# Altium footprint library PCB2.PcbLib: 48 footprints (part 2 of 3)
Each footprint in its own frame and in the unit in brackets; x right, y up, seen from the top. Pads: shape width x height; smd on the part's side, far side on the other; paste and mask are expansions set on the pad; w line width, h text height; cw(c..) or ccw(c..) is an arc to the next point about the centre after c.
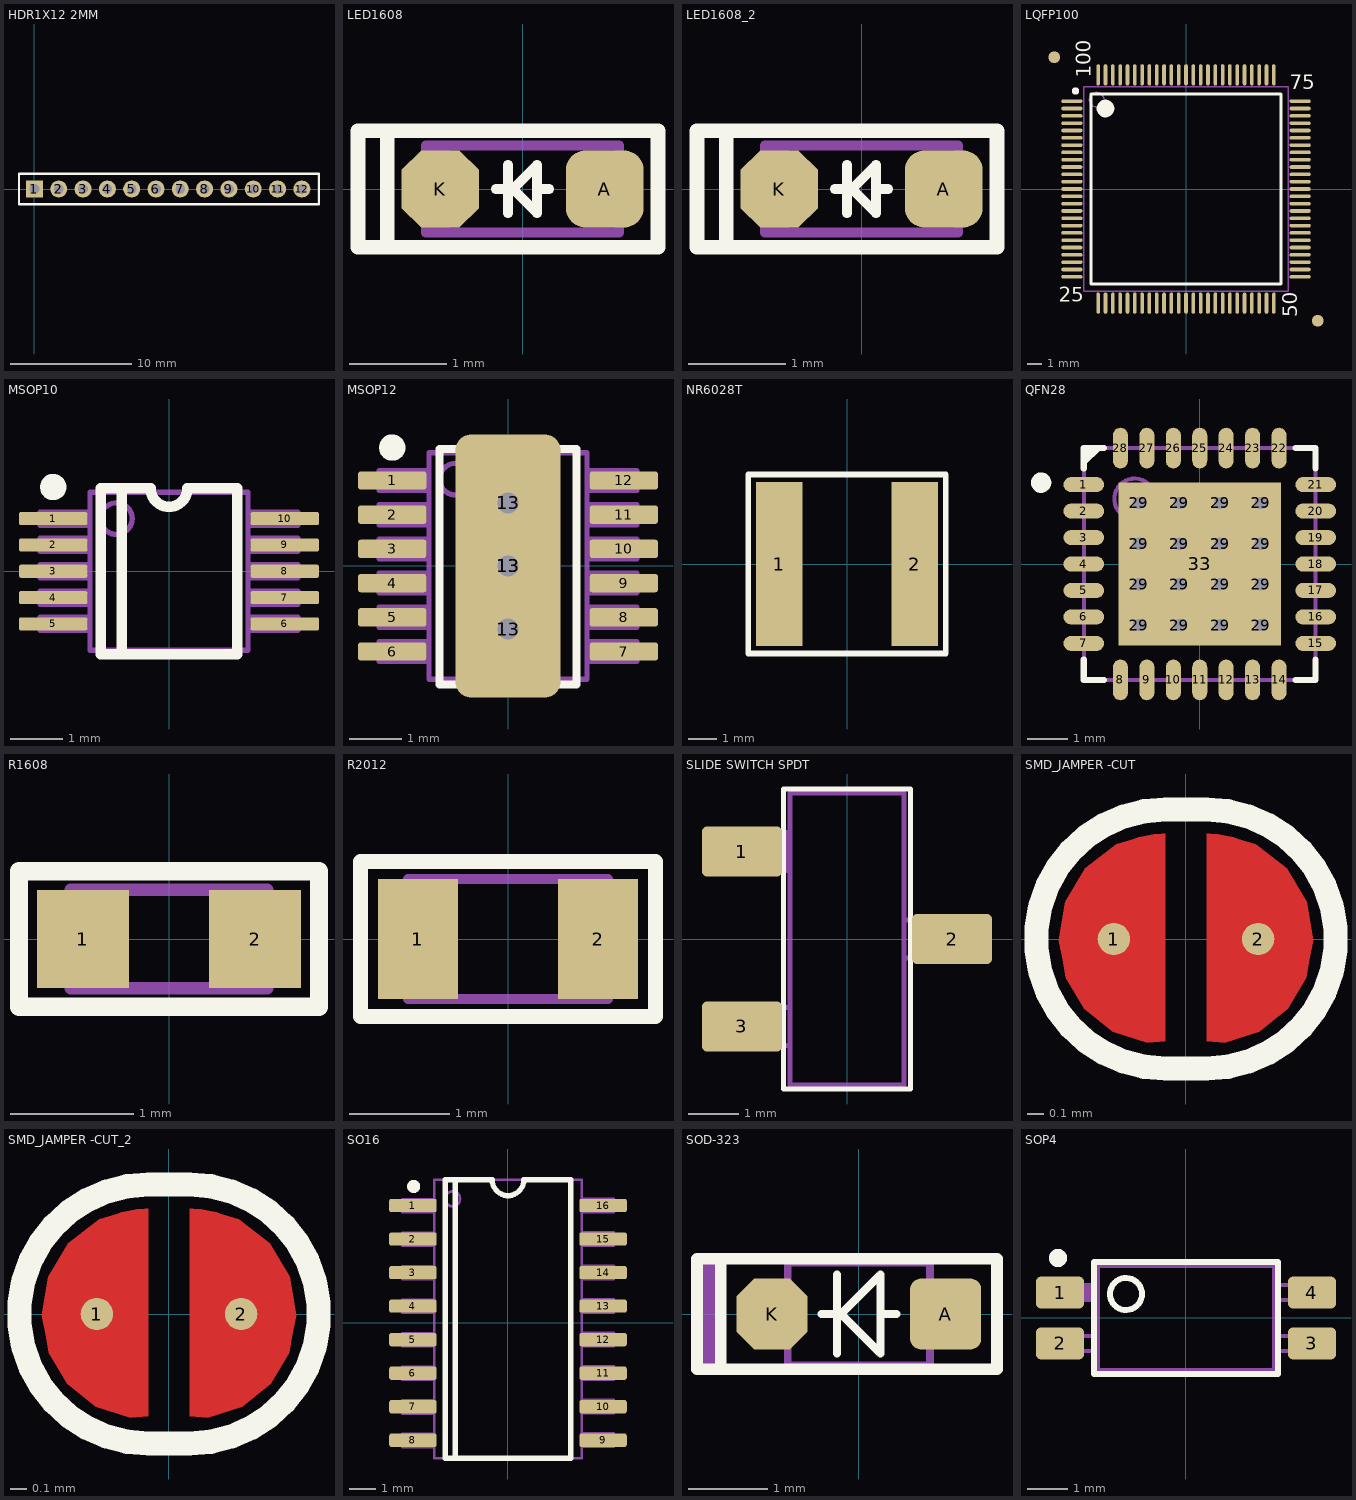
[diagram p1: the footprints below, top view; thin cyan lines are the x and y axes]

## HDR1X12 2MM [mm]
pads (12):
  rect 1.4x1.4 hole 0.8: 1(0,0)
  round 1.4 hole 0.8: 2(2,0) 3(4,0) 4(6,0) 5(8,0) 6(10,0) 7(12,0) 8(14,0) 9(16,0) 10(18,0) 11(20,0) 12(22,0)
Top Overlay:
  lines w0.2: 23.368,-1.27 -1.27,-1.27 -1.27,1.27 23.368,1.27 ; 23.41,-1.27 23.41,1.27
Mechanical 5:
  lines w0.1: -1.27,-1.27 -1.27,1.27 23.368,1.27 23.368,-1.27 -1.27,-1.27

## LED1608 [mm]
pads (2):
  rrect50% 0.8x0.8 smd: A(0.85,0)
  oct 0.8x0.8 smd: K(-0.85,0)
Top Overlay:
  lines w0.1: -0.275,0 -0.125,0 ; -0.15,-0.25 -0.15,0.25 ; 0.15,0 0.275,0 ; -0.1,0 0.15,-0.25 0.15,0.25 -0.1,0
  lines w0.15: -1.4,-0.6 -1.7,-0.6 -1.7,0.6 -1.4,0.6 ; -1.4,-0.6 -1.4,0.6 ; -1.4,-0.6 1.4,-0.6 1.4,0.6 -1.4,0.6
Mechanical 5:
  rectangle: -1,-0.45 -0.75,0.45
  lines w0.1: -1,-0.45 -1,0.45 1,0.45 1,-0.45 -1,-0.45
  text ".designator" at -0.65,-0.15 h0.4
3D body: height 0.3, standoff 0, extent -0.9,-0.45 -0.65,0.45
3D body: height 0.3, standoff 0, extent 0.65,-0.45 0.899,0.45
3D body: height 0.8, standoff 0, extent -0.65,-0.45 0.65,0.45

## LED1608_2 [mm]
pads (2):
  rrect50% 0.8x0.8 smd: A(0.85,0)
  oct 0.8x0.8 smd: K(-0.85,0)
Top Overlay:
  lines w0.1: -0.275,0 -0.125,0 ; -0.15,-0.25 -0.15,0.25 ; 0.15,0 0.275,0 ; -0.1,0 0.15,-0.25 0.15,0.25 -0.1,0
  lines w0.15: -1.4,-0.6 -1.7,-0.6 -1.7,0.6 -1.4,0.6 ; -1.4,-0.6 -1.4,0.6 ; -1.4,-0.6 1.4,-0.6 1.4,0.6 -1.4,0.6
Mechanical 5:
  rectangle: -1,-0.45 -0.75,0.45
  lines w0.1: -1,-0.45 -1,0.45 1,0.45 1,-0.45 -1,-0.45
  text ".designator" at -0.65,-0.15 h0.4
3D body: height 0.3, standoff 0, extent -0.9,-0.45 -0.65,0.45
3D body: height 0.3, standoff 0, extent 0.65,-0.45 0.899,0.45
3D body: height 0.8, standoff 0, extent -0.65,-0.45 0.65,0.45

## LQFP100 [mm]
pads (104):
  oval 1.45x0.25 smd mask+0.07: 1(-7.8,6) 2(-7.8,5.5) 3(-7.8,5) 4(-7.8,4.5) 5(-7.8,4) 6(-7.8,3.5) 7(-7.8,3) 8(-7.8,2.5) 9(-7.8,2) 10(-7.8,1.5) 11(-7.8,1) 12(-7.8,0.5) 13(-7.8,0) 14(-7.8,-0.5) 15(-7.8,-1) 16(-7.8,-1.5) 17(-7.8,-2) 18(-7.8,-2.5) 19(-7.8,-3) 20(-7.8,-3.5) 21(-7.8,-4) 22(-7.8,-4.5) 23(-7.8,-5) 24(-7.8,-5.5) 25(-7.8,-6) 51(7.8,-6) 52(7.8,-5.5) 53(7.8,-5) 54(7.8,-4.5) 55(7.8,-4) 56(7.8,-3.5) 57(7.8,-3) 58(7.8,-2.5) 59(7.8,-2) 60(7.8,-1.5) 61(7.8,-1) 62(7.8,-0.5) 63(7.8,0) 64(7.8,0.5) 65(7.8,1) 66(7.8,1.5) 67(7.8,2) 68(7.8,2.5) 69(7.8,3) 70(7.8,3.5) 71(7.8,4) 72(7.8,4.5) 73(7.8,5) 74(7.8,5.5) 75(7.8,6)
  oval 0.25x1.45 smd mask+0.07: 26(-6,-7.8) 27(-5.5,-7.8) 28(-5,-7.8) 29(-4.5,-7.8) 30(-4,-7.8) 31(-3.5,-7.8) 32(-3,-7.8) 33(-2.5,-7.8) 34(-2,-7.8) 35(-1.5,-7.8) 36(-1,-7.8) 37(-0.5,-7.8) 38(0,-7.8) 39(0.5,-7.8) 40(1,-7.8) 41(1.5,-7.8) 42(2,-7.8) 43(2.5,-7.8) 44(3,-7.8) 45(3.5,-7.8) 46(4,-7.8) 47(4.5,-7.8) 48(5,-7.8) 49(5.5,-7.8) 50(6,-7.8) 76(6,7.8) 77(5.5,7.8) 78(5,7.8) 79(4.5,7.8) 80(4,7.8) 81(3.5,7.8) 82(3,7.8) 83(2.5,7.8) 84(2,7.8) 85(1.5,7.8) 86(1,7.8) 87(0.5,7.8) 88(0,7.8) 89(-0.5,7.8) 90(-1,7.8) 91(-1.5,7.8) 92(-2,7.8) 93(-2.5,7.8) 94(-3,7.8) 95(-3.5,7.8) 96(-4,7.8) 97(-4.5,7.8) 98(-5,7.8) 99(-5.5,7.8) 100(-6,7.8)
  round 0.8 smd paste-5: FID(-9,9) FID(9,-9)
  round 2.5 on Top Solder: ""(-9,9) ""(9,-9)
Top Overlay:
  circle w0.25: c-7.55,6.7 r0.125
  circle w0.6: c-5.5,5.5 r0.3
  lines w0.2: -6.5,-6.5 -6.5,6.5 6.5,6.5 6.5,-6.5 -6.5,-6.5
  text "25" at -8.7,-7.7 h1
  text "100" at -6.5,7.6 h1
  text "50" at 7.6,-8.75 h1
  text "75" at 7.1,6.8 h1
Mechanical 5:
  circle w0.1: c-6.1,6.1 r0.5
  lines w0.1: -7,-7 7,-7 7,7 -7,7 -7,-7
Mechanical 13:
  circle w0.1: c-6.1,6.1 r0.5
  lines w0.1: -7,-7 -7,7 7,7 7,-7 -7,-7
3D body: height 1.2, standoff 0, extent -7,-7 7,7

## MSOP10 [mm]
pads (10):
  rrect30% 1.3x0.25 smd: 1(-2.2,1) 2(-2.2,0.5) 3(-2.2,0) 4(-2.2,-0.5) 5(-2.2,-1) 6(2.2,-1) 7(2.2,-0.5) 8(2.2,0) 9(2.2,0.5) 10(2.2,1)
Top Overlay:
  circle w0.25: c-2.2,1.6 r0.125
  lines w0.2: -0.9,-1.575 -0.9,1.575 ; 0.351,1.575 cw(c0,1.575) -0.351,1.575 -1.3,1.575 -1.3,-1.575 1.3,-1.575 1.3,1.575 0.375,1.575
Mechanical 5:
  circle w0.1: c-1,1 r0.3
  lines w0.1: -1.5,-1.125 -2.45,-1.125 -2.45,-0.875 -1.5,-0.875 ; -1.5,-0.625 -2.45,-0.625 -2.45,-0.375 -1.5,-0.375 ; -1.5,-0.125 -2.45,-0.125 -2.45,0.125 -1.5,0.125 ; -1.5,0.375 -2.45,0.375 -2.45,0.625 -1.5,0.625 ; -1.5,0.875 -2.45,0.875 -2.45,1.125 -1.5,1.125 ; 1.5,-1.125 2.45,-1.125 2.45,-0.875 1.5,-0.875 ; 1.5,-0.625 2.45,-0.625 2.45,-0.375 1.5,-0.375 ; 1.5,-0.125 2.45,-0.125 2.45,0.125 1.5,0.125 ; 1.5,0.375 2.45,0.375 2.45,0.625 1.5,0.625 ; 1.5,0.875 2.45,0.875 2.45,1.125 1.5,1.125 ; -1.5,-1.5 1.5,-1.5 1.5,1.5 -1.5,1.5 -1.5,-1.5
  text ".designator" at -1.33,-0.3 h0.6
Mechanical 13:
  lines w0.1: -1.5,-1.5 1.5,-1.5 1.5,1.5 -1.5,1.5 -1.5,-1.5
3D body "User Library-MSOP10-1.STEP": height 1.09, standoff 0, extent -2.575,-1.6 2.575,1.6

## MSOP12 [mm]
pads (16):
  rrect30% 1.3x0.35 smd: 1(-2.2,1.625) 2(-2.2,0.975) 3(-2.2,0.325) 4(-2.2,-0.325) 5(-2.2,-0.975) 6(-2.2,-1.625) 7(2.2,-1.625) 8(2.2,-0.975) 9(2.2,-0.325) 10(2.2,0.325) 11(2.2,0.975) 12(2.2,1.625)
  round 0.8 hole 0.4: 13(0,-1.2) 13(0,0) 13(0,1.2)
  rrect30% 2x5 smd: 13(0,0)
Top Overlay:
  circle w0.25: c-2.2,2.25 r0.125
  lines w0.15: -0.9,-2.25 -0.9,2.225 ; 0.351,2.225 cw(c0,2.225) -0.351,2.225 -1.3,2.225 -1.3,-2.25 1.3,-2.25 1.3,2.225 0.375,2.225
Mechanical 5:
  circle w0.1: c-1,1.65 r0.3
  rectangle: -2.45,1.435 -1.5,1.815
  lines w0.1: -1.5,-1.815 -2.45,-1.815 -2.45,-1.435 -1.5,-1.435 ; -1.5,-1.165 -2.45,-1.165 -2.45,-0.785 -1.5,-0.785 ; -1.5,-0.515 -2.45,-0.515 -2.45,-0.135 -1.5,-0.135 ; -1.5,0.135 -2.45,0.135 -2.45,0.515 -1.5,0.515 ; -1.5,0.785 -2.45,0.785 -2.45,1.165 -1.5,1.165 ; -1.5,1.435 -2.45,1.435 -2.45,1.815 -1.5,1.815 ; 1.5,-1.815 2.45,-1.815 2.45,-1.435 1.5,-1.435 ; 1.5,-1.165 2.45,-1.165 2.45,-0.785 1.5,-0.785 ; 1.5,-0.515 2.45,-0.515 2.45,-0.135 1.5,-0.135 ; 1.5,0.135 2.45,0.135 2.45,0.515 1.5,0.515 ; 1.5,0.785 2.45,0.785 2.45,1.165 1.5,1.165 ; 1.5,1.435 2.45,1.435 2.45,1.815 1.5,1.815 ; -1.5,-2.15 -1.5,2.15 1.5,2.15 1.5,-2.15 -1.5,-2.15
  text ".designator" at 0.3,-1.6 h0.7
Mechanical 13:
  lines w0.1: -1.5,-0.85 -1.5,2.15 1.5,2.15 1.5,-0.85
3D body "User Library-MSOP12-EP.step": height 0.98, standoff 0, extent -2.45,-2.02 2.45,2.019

## NR6028T [mm]
pads (2):
  rect 1.6x5.7 smd: 1(-2.35,0) 2(2.35,0)
Top Overlay:
  lines w0.2: -3.425,-3.1 3.425,-3.1 3.425,3.1 -3.425,3.1 -3.425,-3.1
Mechanical 5:
  lines w0.1: -3.425,-3.1 -3.425,3.1 3.425,3.1 3.425,-3.1 -3.425,-3.1
  text ".designator" at -3.048,-0.762 h1.4

## QFN28 [mm] "QFN, 32-Leads, Body 5.1x5.1mm (max), Pitch 0.50mm, IPC Medium Density"
height 1
pads (45):
  oval 1x0.37 smd mask+0.07: 1(-2.85,1.95) 2(-2.85,1.3) 3(-2.85,0.65) 4(-2.85,0) 5(-2.85,-0.65) 6(-2.85,-1.3) 7(-2.85,-1.95) 15(2.85,-1.95) 16(2.85,-1.3) 17(2.85,-0.65) 18(2.85,0) 19(2.85,0.65) 20(2.85,1.3) 21(2.85,1.95)
  oval 0.37x1 smd mask+0.07: 8(-1.95,-2.85) 9(-1.3,-2.85) 10(-0.65,-2.85) 11(0,-2.85) 12(0.65,-2.85) 13(1.3,-2.85) 14(1.95,-2.85) 22(1.95,2.85) 23(1.3,2.85) 24(0.65,2.85) 25(0,2.85) 26(-0.65,2.85) 27(-1.3,2.85) 28(-1.95,2.85)
  round 0.6 hole 0.3: 29(-1.5,-1.5) 29(-1.5,-0.5) 29(-1.5,0.5) 29(-1.5,1.5) 29(-0.5,-1.5) 29(-0.5,-0.5) 29(-0.5,0.5) 29(-0.5,1.5) 29(0.5,-1.5) 29(0.5,-0.5) 29(0.5,1.5) 29(1.5,-1.5) 29(1.5,-0.5) 29(1.5,0.5) 29(1.5,1.5)
  round 0.6 hole 0.3 paste-2 mask+0: 29(0.5,0.5)
  rect 4x4 smd paste-2 mask+0: 33(0,0)
Top Overlay:
  circle w0.25: c-3.9,2 r0.125
  lines w0.15: -2.85,-2.35 -2.85,-2.85 -2.35,-2.85 ; -2.85,2.35 -2.85,2.85 -2.35,2.85 ; -2.85,2.5 -2.5,2.85 ; -2.85,2.625 -2.625,2.85 ; 2.35,-2.85 2.85,-2.85 2.85,-2.35 ; 2.35,2.85 2.85,2.85 2.85,2.35
Top Paste:
  rectangle: -1.55,0.15 -0.15,1.55
  region: 1.55,1.55 0.15,1.55 0.15,0.15 1.55,0.15
  region: 1.55,-0.15 0.15,-0.15 0.15,-1.55 1.55,-1.55
  rectangle: -1.55,-1.55 -0.15,-0.15
Mechanical 5:
  circle w0.1: c-1.6,1.6 r0.5
  lines w0.1: -2.85,-2.85 2.85,-2.85 2.85,2.85 -2.85,2.85 -2.85,-2.85
  text ".designator" at -2.2,-0.5 h1
Mechanical 13:
  circle w0.1: c-1.6,1.6 r0.5
  lines w0.1: -2.85,-2.85 2.85,-2.85 2.85,2.85 -2.85,2.85 -2.85,-2.85
3D body "User Library-QFN-28.STEP": height 1.02, standoff -0.08, extent -3,-3 3,3

## R1608 [mm]
pads (2):
  rect 0.75x0.8 smd mask+0.05: 1(-0.7,0) 2(0.7,0)
Top Overlay:
  lines w0.15: -1.22,-0.55 -1.22,0.55 1.22,0.55 1.22,-0.55 -1.22,-0.55
Mechanical 5:
  lines w0.1: -1.22,-0.55 1.22,-0.55 1.22,0.55 -1.22,0.55 -1.22,-0.55
  text ".designator" at -1.05,-0.25 h0.5
Mechanical 13:
  lines w0.1: -0.4,-0.4 -0.4,0.4 ; 0.4,-0.4 0.4,0.4 ; -0.8,-0.4 0.8,-0.4 0.8,0.4 -0.8,0.4 -0.8,-0.4
3D body: height 0.45, standoff 0, extent 0.401,-0.399 0.799,0.399
3D body: height 0.45, standoff 0, extent -0.399,-0.399 0.399,0.399
3D body: height 0.45, standoff 0, extent -0.799,-0.399 -0.401,0.399

## R2012 [mm]
pads (2):
  rect 0.8x1.2 smd mask+0.05: 1(-0.9,0) 2(0.9,0)
Top Overlay:
  lines w0.15: -1.475,-0.775 1.475,-0.775 1.475,0.775 -1.475,0.775 -1.475,-0.775
Mechanical 5:
  lines w0.1: -1.475,-0.775 -1.475,0.775 1.475,0.775 1.475,-0.775 -1.475,-0.775
  text ".designator" at -1.3,-0.3 h0.6
Mechanical 13:
  lines w0.1: -0.6,-0.6 -0.6,0.6 ; 0.6,-0.6 0.6,0.6 ; -1,-0.6 -1,0.6 1,0.6 1,-0.6 -1,-0.6
3D body: height 0.55, standoff 0, extent -0.599,-0.599 0.599,0.599
3D body: height 0.55, standoff 0, extent -0.999,-0.599 -0.601,0.599
3D body: height 0.55, standoff 0, extent 0.601,-0.599 0.999,0.599

## SLIDE SWITCH SPDT [mm]
pads (3):
  rrect20% 1.6x1 smd: 1(-2.1,1.75) 2(2.1,0) 3(-2.1,-1.75)
Top Overlay:
  lines w0.1: -1.27,-3 -1.27,3 1.27,3 1.27,-3 -1.27,-3
Mechanical 5:
  rectangle: -2.354,1.397 -1.143,2.131
  lines w0.1: -1.143,-2.131 -2.354,-2.131 -2.354,-1.369 -1.143,-1.369 ; -1.143,1.369 -2.354,1.369 -2.354,2.131 -1.143,2.131 ; 1.143,-0.381 2.286,-0.381 2.286,0.381 1.143,0.381 ; -1.143,-2.921 1.143,-2.921 1.143,2.921 -1.143,2.921 -1.143,-2.921
  text ".designator" at 0.381,-1.778 h0.8

## SMD_JAMPER -CUT [mm]
pads (2):
  round 0.2 smd mask+0.102: 1(-0.446,0)
  round 0.2 smd: 2(0.446,0)
Top Layer:
  region: 0.127,0.65 0.151,0.65 0.199,0.646 0.247,0.639 0.294,0.628 0.317,0.621 0.432,0.586 0.623,0.437 0.746,0.23 0.786,-0.009 0.762,-0.127 0.744,-0.238 0.63,-0.432 0.454,-0.573 0.239,-0.64 0.127,-0.633
  region: -0.127,0.65 -0.151,0.65 -0.199,0.646 -0.247,0.639 -0.294,0.628 -0.317,0.621 -0.432,0.586 -0.623,0.437 -0.746,0.229 -0.786,-0.009 -0.762,-0.127 -0.744,-0.238 -0.63,-0.432 -0.454,-0.573 -0.239,-0.64 -0.127,-0.633
Top Overlay:
  lines w0.15: -0.127,-0.8 cw(c-0.127,0) -0.127,0.8 0.127,0.8 cw(c0.127,0) 0.127,-0.8 -0.127,-0.8
Mechanical 5:
  lines w0.1: -0.127,-0.8 cw(c-0.127,0) -0.127,0.8 0.127,0.8 cw(c0.127,0) 0.127,-0.8 -0.127,-0.8

## SMD_JAMPER -CUT_2 [mm]
pads (2):
  round 0.2 smd mask+0.102: 1(-0.446,0)
  round 0.2 smd: 2(0.446,0)
Top Layer:
  region: -0.127,0.65 -0.151,0.65 -0.199,0.646 -0.247,0.639 -0.294,0.628 -0.317,0.621 -0.432,0.586 -0.623,0.437 -0.746,0.229 -0.786,-0.009 -0.762,-0.127 -0.744,-0.238 -0.63,-0.432 -0.454,-0.573 -0.239,-0.64 -0.127,-0.633
  region: 0.127,0.65 0.151,0.65 0.199,0.646 0.247,0.639 0.294,0.628 0.317,0.621 0.432,0.586 0.623,0.437 0.746,0.23 0.786,-0.009 0.762,-0.127 0.744,-0.238 0.63,-0.432 0.454,-0.573 0.239,-0.64 0.127,-0.633
Top Overlay:
  lines w0.15: -0.127,-0.8 cw(c-0.127,0) -0.127,0.8 0.127,0.8 cw(c0.127,0) 0.127,-0.8 -0.127,-0.8
Mechanical 5:
  lines w0.1: -0.127,-0.8 cw(c-0.127,0) -0.127,0.8 0.127,0.8 cw(c0.127,0) 0.127,-0.8 -0.127,-0.8

## SO16 [mm]
pads (16):
  rrect30% 1.8x0.5 smd: 1(-3.6,4.445) 2(-3.6,3.175) 3(-3.6,1.905) 4(-3.6,0.635) 5(-3.6,-0.635) 6(-3.6,-1.905) 7(-3.6,-3.175) 8(-3.6,-4.445) 9(3.6,-4.445) 10(3.6,-3.175) 11(3.6,-1.905) 12(3.6,-0.635) 13(3.6,0.635) 14(3.6,1.905) 15(3.6,3.175) 16(3.6,4.445)
Top Overlay:
  circle w0.25: c-3.575,5.17 r0.125
  lines w0.2: -2,-5.13 -2,5.37 ; -2.375,-5.13 2.375,-5.13 2.375,5.42 0.6,5.42 cw(c0,5.42) -0.6,5.42 -2.375,5.42 -2.375,-5.13
Mechanical 5:
  circle w0.1: c-2.1,4.7 r0.283
  lines w0.1: -2.8,-4.7 -4,-4.7 -4,-4.2 -2.8,-4.2 ; -2.8,-3.43 -4,-3.43 -4,-2.93 -2.8,-2.93 ; -2.8,-2.16 -4,-2.16 -4,-1.66 -2.8,-1.66 ; -2.8,-0.89 -4,-0.89 -4,-0.39 -2.8,-0.39 ; -2.8,0.38 -4,0.38 -4,0.88 -2.8,0.88 ; -2.8,1.65 -4,1.65 -4,2.15 -2.8,2.15 ; -2.8,2.92 -4,2.92 -4,3.42 -2.8,3.42 ; -2.8,4.19 -4,4.19 -4,4.69 -2.8,4.69 ; 2.8,-4.69 4,-4.69 4,-4.19 2.8,-4.19 ; 2.8,-3.42 4,-3.42 4,-2.92 2.8,-2.92 ; 2.8,-2.15 4,-2.15 4,-1.65 2.8,-1.65 ; 2.8,-0.88 4,-0.88 4,-0.38 2.8,-0.38 ; 2.8,0.39 4,0.39 4,0.89 2.8,0.89 ; 2.8,1.66 4,1.66 4,2.16 2.8,2.16 ; 2.8,2.93 4,2.93 4,3.43 2.8,3.43 ; 2.8,4.2 4,4.2 4,4.7 2.8,4.7 ; -2.8,-5.13 -2.8,5.42 ; -2.8,-5.13 2.8,-5.13 ; -2.8,-5.13 2.8,-5.13 ; -2.8,-5.13 -2.8,5.42 ; -2.8,5.42 2.8,5.42 ; -2.8,5.42 2.8,5.42 ; 2.8,-5.13 2.8,5.42 ; 2.8,-5.13 2.8,5.42
Mechanical 13:
  lines w0.1: -2.8,-5.13 -2.8,5.42 ; -2.8,-5.13 2.8,-5.13 ; -2.8,-5.13 2.8,-5.13 ; -2.8,-5.13 -2.8,5.42 ; -2.8,5.42 2.8,5.42 ; -2.8,5.42 2.8,5.42 ; 2.8,-5.13 2.8,5.42 ; 2.8,-5.13 2.8,5.42

## SOD-323 [mm]
pads (2):
  rrect30% 0.9x0.9 smd: A(1.1,0)
  oct 0.9x0.9 smd: K(-1.1,0)
Top Overlay:
  lines w0.1: -0.475,0 -0.25,0 ; -0.275,-0.5 -0.275,0.5 ; 0.262,-0.488 -0.225,0 0.262,0.488 ; 0.275,-0.5 0.275,0.5 ; 0.275,0 0.475,0
  lines w0.15: -1.75,-0.7 -1.75,0.7 ; -1.75,-0.7 -2.05,-0.7 -2.05,0.7 -1.75,0.7 ; -1.75,-0.7 1.75,-0.7 1.75,0.7 -1.75,0.7
Mechanical 5:
  rectangle: -2.05,-0.7 -1.75,0.7
  lines w0.1: -1.75,-0.7 -1.75,0.7 ; -2.05,-0.7 -2.05,0.7 1.75,0.7 1.75,-0.7 -2.05,-0.7
  text ".designator" at -1.55,-0.35 h0.7
Mechanical 13:
  lines w0.1: -0.9,-0.15 -1.3,-0.15 -1.3,0.15 -0.9,0.15 ; 0.9,-0.15 1.3,-0.15 1.3,0.15 0.9,0.15 ; -0.9,-0.65 0.9,-0.65 0.9,0.65 -0.9,0.65 -0.9,-0.65
3D body "User Library-SOD2513X11.step": height 1.1, standoff 0, extent -1.35,-0.625 1.35,0.625

## SOP4 [mm]
pads (4):
  rrect30% 1.2x0.8 smd: 1(-3.15,0.635) 2(-3.15,-0.635) 3(3.15,-0.635) 4(3.15,0.635)
Top Overlay:
  circle w0.15: c-1.5,0.6 r0.4
  circle w0.254: c-3.2,1.5 r0.1
  lines w0.15: -2.3,-1.4 -2.3,1.4 2.3,1.4 2.3,-1.4 -2.3,-1.4
Mechanical 5:
  circle w0.1: c-1.5,0.6 r0.4
  rectangle: -3.5,0.445 -2.2,0.825
  lines w0.1: -2.2,-0.825 -3.5,-0.825 -3.5,-0.445 -2.2,-0.445 ; -2.2,0.445 -3.5,0.445 -3.5,0.825 -2.2,0.825 ; 2.2,-0.825 3.5,-0.825 3.5,-0.445 2.2,-0.445 ; 2.2,0.445 3.5,0.445 3.5,0.825 2.2,0.825 ; -2.2,-1.3 2.2,-1.3 2.2,1.3 -2.2,1.3 -2.2,-1.3
  text ".designator" at -1.9,-0.9 h0.75
Mechanical 13:
  lines w0.1: -3,-0.825 -3,-0.445 ; -3,0.445 -3,0.825 ; -2.2,-0.825 -3.5,-0.825 -3.5,-0.445 -2.2,-0.445 ; -2.2,0.445 -3.5,0.445 -3.5,0.825 -2.2,0.825 ; 2.2,-0.825 3.5,-0.825 3.5,-0.445 2.2,-0.445 ; 2.2,0.445 3.5,0.445 3.5,0.825 2.2,0.825 ; 3,-0.825 3,-0.445 ; 3,0.445 3,0.825 ; -2.2,-1.3 -2.2,1.3 2.2,1.3 2.2,-1.3 -2.2,-1.3
3D body "SW3DPS-TLP281-DEFAULT.STEP": height 1.9, standoff 0, extent -3.5,-1.3 3.5,1.3